# Altium schematic symbol library sucaiku_schlib.SCHLIB: 19 symbols
Pins are listed as number, name and electrical type; pins without a type are passive.

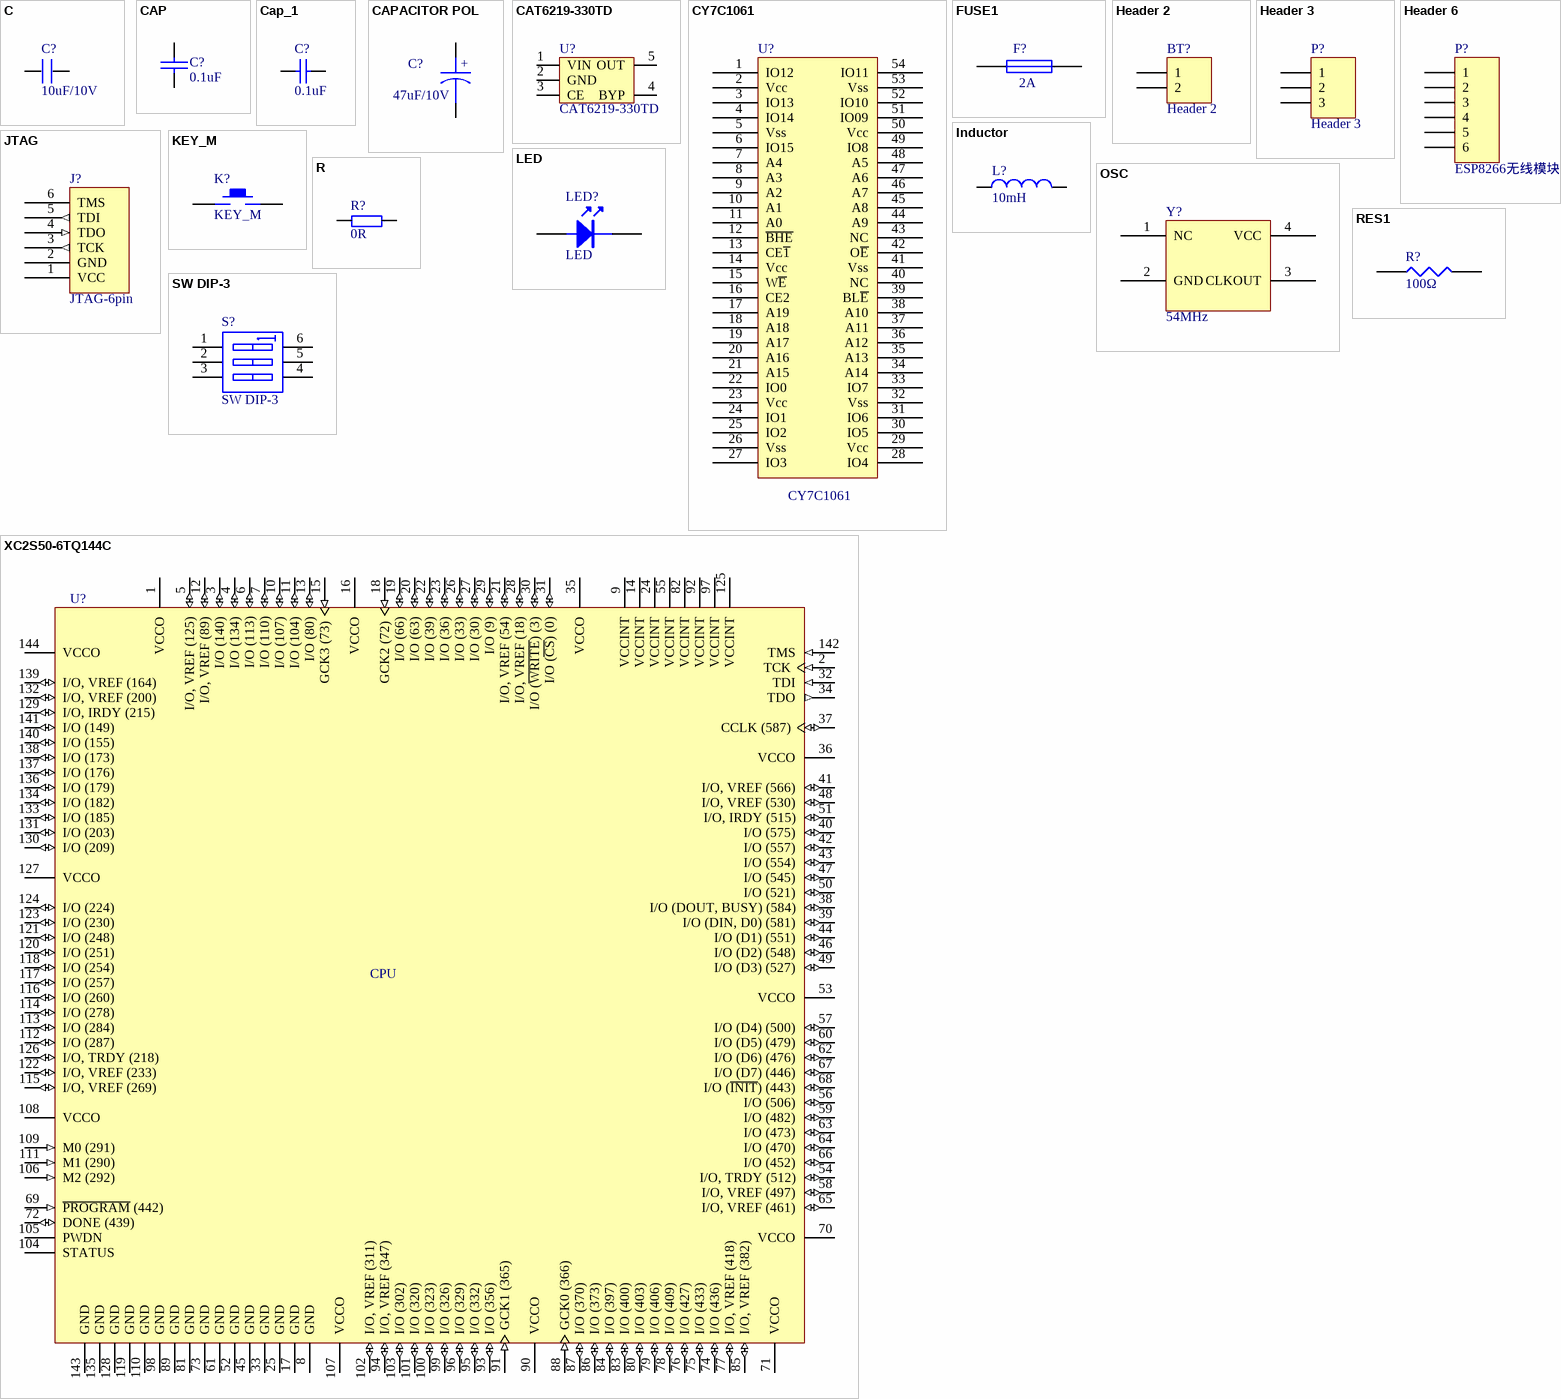
[diagram p0: symbols C to XC2S50-6TQ144C]

## C
designator C?, comment 10uF/10V
footprint 0805
pins: 1, 2

## CAP
designator C?, comment 0.1uF
Capacitor
footprint 0603
pins: 1, 2

## Cap_1
designator C?, comment 0.1uF
Capacitor; Value: 100pF; Published: 8-Jun-2000; LatestRevisionDate: 17-Jul-2002; LatestRevisionNote: Re-released for DXP Platform.; PackageReference: RAD-0.3; Publisher: Altium Limited
footprint RAD-0.3 (Radial Cap, Thru-Hole; 2 Leads; 0.3 in Pin Spacing)
footprint CAPR2.54-5.1x3.2 (Capacitor, Ceramic, Thru-Hole, Dipped Radial; Body 5.1 x 3.2 mm (WxT) Pin Spacing 2.54 mm (typ))
footprint CAPR5.08-7.8x3.2 (Capacitor, Ceramic, Thru-Hole, Dipped Radial; Body 7.8 x 3.2 mm (WxT) Pin Spacing 5.08 mm (typ))
simulation model CAP (Capacitor)
signal-integrity model Cap
footprint 0402
pins: 1, 2

## CAPACITOR POL
designator C?, comment 47uF/10V
Capacitor
footprint CAK45-E
pins: 1, 2
text: +

## CAT6219-330TD
designator U?
3.3V 500mA LDO
footprint SOT-23-5
pins: 1 VIN, 2 GND, 3 CE, 4 BYP, 5 OUT

## CY7C1061
designator U?
CY7C1061AC
footprint TSOP54
pins: 1 IO12, 2 Vcc, 3 IO13, 4 IO14, 5 Vss, 6 IO15, 7 A4, 8 A3, 9 A2, 10 A1, 11 A0, 12 ~{BHE}, 13 CE~{1}, 14 Vcc, 15 W~{E}, 16 CE2, 17 A19, 18 A18, 19 A17, 20 A16, 21 A15, 22 IO0, 23 Vcc, 24 IO1, 25 IO2, 26 Vss, 27 IO3, 28 IO4, 29 Vcc, 30 IO5, 31 IO6, 32 Vss, 33 IO7, 34 A14, 35 A13, 36 A12, 37 A11, 38 A10, 39 BL~{E}, 40 NC, 41 Vss, 42 O~{E}, 43 NC, 44 A9, 45 A8, 46 A7, 47 A6, 48 A5, 49 IO8, 50 Vcc, 51 IO09, 52 IO10, 53 Vss, 54 IO11

## FUSE1
designator F?, comment 2A
Fuse
footprint 0603
pins: 1, 2

## Header 2
designator BT?
Header, 2-Pin; LatestRevisionDate: 17-Jul-2002; LatestRevisionNote: Re-released for DXP Platform.; Publisher: Altium Limited
footprint HDR1X2 (Connector; Header; 2 Position)
signal-integrity model Connector
pins: 1, 2

## Header 3
designator P?
Header, 3-Pin; LatestRevisionDate: 17-Jul-2002; LatestRevisionNote: Re-released for DXP Platform.; Publisher: Altium Limited
footprint HDR1X3 (Connector; Header; 3 Position)
signal-integrity model Connector
pins: 1, 2, 3

## Header 6
designator P?, comment ESP8266无线模块
Header, 6-Pin; LatestRevisionDate: 17-Jul-2002; LatestRevisionNote: Re-released for DXP Platform.; Publisher: Altium Limited
footprint ATK-ESP8266
signal-integrity model Connector
pins: 1, 2, 3, 4, 5, 6

## Inductor
designator L?, comment 10mH
Inductor; Code_IEC: 1005; Published: 8-Jun-2000; LatestRevisionDate: 29-May-2009; LatestRevisionNote: IPC-7351 Footprint Added.; PackageReference: 0402-A; Publisher: Altium Limited; PackageDescription: Chip Inductor; Code_JEITA: 0402
footprint L0805
footprint INDC1608L (Chip Inductor, Body 1.6x0.8mm, IPC High Density)
footprint INDC2012L (Chip Inductor, Body 2.0x1.2mm, IPC High Density)
footprint INDC0603L (Chip Inductor, Body 0.6x0.3mm, IPC High Density)
footprint INDC3216AL (Chip Inductor, Body 3.2x1.6mm, IPC High Density)
footprint INDC4532L (Chip Inductor, Body 4.5x3.2mm, IPC High Density)
simulation model INDUCTOR (Inductor)
signal-integrity model Inductor
pins: 1, 2

## JTAG
designator J?, comment JTAG-6pin
JTAG INTERFACE
footprint SIP6
pins: 1 VCC (power), 2 GND (power), 3 TCK (out), 4 TDO (in), 5 TDI (out), 6 TMS (power)

## KEY_M
designator K?
footprint KEY_M (KEY_MID)
footprint KEY_2 (KEY?)
footprint KEY_SOP_BG (KEY?)
footprint SWITCH
pins: 1, 2

## LED
designator LED?
footprint LED0805
pins: 1 A, 2 K

## OSC
designator Y?, comment 54MHz
active oscillation
footprint DIP14
footprint 7050晶振
pins: 1 NC, 2 GND, 3 CLKOUT, 4 VCC

## R
designator R?, comment 0R
footprint 0603
pins: 1, 2

## RES1
designator R?, comment 100Ω
footprint 0805
pins: 1, 2

## SW DIP-3
designator S?
DIP Switch
footprint SW3 SMD
pins: 1 A1, 2 A2, 3 A3, 4 B3, 5 B2, 6 B1

## XC2S50-6TQ144C
designator U?, comment CPU
Spartan-II 2.5V Field Programmable Gate Array; Text Field7: Published 13-Jul-2001
footprint F-QFP20X20-G144/N
pins: 1 VCCO (power), 2 TCK (in), 3 I/O (140) (io), 4 I/O (134) (io), 5 I/O, VREF (125) (io), 6 I/O (113) (io), 7 I/O (110) (io), 8 GND (power), 9 VCCINT (power), 10 I/O (107) (io), 11 I/O (104) (io), 12 I/O, VREF (89) (io), 13 I/O (80) (io), 14 VCCINT (power), 15 GCK3 (73) (in), 16 VCCO (power), 17 GND (power), 18 GCK2 (72) (in), 19 I/O (66) (io), 20 I/O (63) (io), 21 I/O, VREF (54) (io), 22 I/O (39) (io), 23 I/O (36) (io), 24 VCCINT (power), 25 GND (power), 26 I/O (33) (io), 27 I/O (30) (io), 28 I/O, VREF (18) (io), 29 I/O (9) (io), 30 I/O (~{WRITE}) (3) (io), 31 I/O (~{CS}) (0) (io), 32 TDI (in), 33 GND (power), 34 TDO (out), 35 VCCO (power), 36 VCCO (power), 37 CCLK (587) (io), 38 I/O (DOUT, BUSY) (584) (io), 39 I/O (DIN, D0) (581) (io), 40 I/O (575) (io), 41 I/O, VREF (566) (io), 42 I/O (557) (io), 43 I/O (554) (io), 44 I/O (D1) (551) (io), 45 GND (power), 46 I/O (D2) (548) (io), 47 I/O (545) (io), 48 I/O, VREF (530) (io), 49 I/O (D3) (527) (io), 50 I/O (521) (io), 51 I/O, IRDY (515) (io), 52 GND (power), 53 VCCO (power), 54 I/O, TRDY (512) (io), 55 VCCINT (power), 56 I/O (506) (io), 57 I/O (D4) (500) (io), 58 I/O, VREF (497) (io), 59 I/O (482) (io), 60 I/O (D5) (479) (io), 61 GND (power), 62 I/O (D6) (476) (io), 63 I/O (473) (io), 64 I/O (470) (io), 65 I/O, VREF (461) (io), 66 I/O (452) (io), 67 I/O (D7) (446) (io), 68 I/O (~{INIT}) (443) (io), 69 ~{PROGRAM} (442) (in), 70 VCCO (power), 71 VCCO (power), 72 DONE (439) (io), 73 GND (power), 74 I/O (436) (io), 75 I/O (433) (io), 76 I/O (427) (io), 77 I/O, VREF (418) (io), 78 I/O (409) (io), 79 I/O (406) (io), 80 I/O (403) (io), 81 GND (power), 82 VCCINT (power), 83 I/O (400) (io), 84 I/O (397) (io), 85 I/O, VREF (382) (io), 86 I/O (373) (io), 87 I/O (370) (io), 88 GCK0 (366) (in), 89 GND (power), 90 VCCO (power), 91 GCK1 (365) (in), 92 VCCINT (power), 93 I/O (356) (io), 94 I/O, VREF (347) (io), 95 I/O (332) (io), 96 I/O (329) (io), 97 VCCINT (power), 98 GND (power), 99 I/O (326) (io), 100 I/O (323) (io), 101 I/O (320) (io), 102 I/O, VREF (311) (io), 103 I/O (302) (io), 104 STATUS, 105 PWDN, 106 M2 (292) (in), 107 VCCO (power), 108 VCCO (power), 109 M0 (291) (in), 110 GND (power), 111 M1 (290) (in), 112 I/O (287) (io), 113 I/O (284) (io), 114 I/O (278) (io), 115 I/O, VREF (269) (io), 116 I/O (260) (io), 117 I/O (257) (io), 118 I/O (254) (io), 119 GND (power), 120 I/O (251) (io), 121 I/O (248) (io), 122 I/O, VREF (233) (io), 123 I/O (230) (io), 124 I/O (224) (io), 125 VCCINT (power), 126 I/O, TRDY (218) (io), 127 VCCO (power), 128 GND (power), 129 I/O, IRDY (215) (io), 130 I/O (209) (io), 131 I/O (203) (io), 132 I/O, VREF (200) (io), 133 I/O (185) (io), 134 I/O (182) (io), 135 GND (power), 136 I/O (179) (io), 137 I/O (176) (io), 138 I/O (173) (io), 139 I/O, VREF (164) (io), 140 I/O (155) (io), 141 I/O (149) (io), 142 TMS (in), 143 GND (power), 144 VCCO (power)